# EAGLE library part TM4C123GH6PZ (library Shared Libraries)
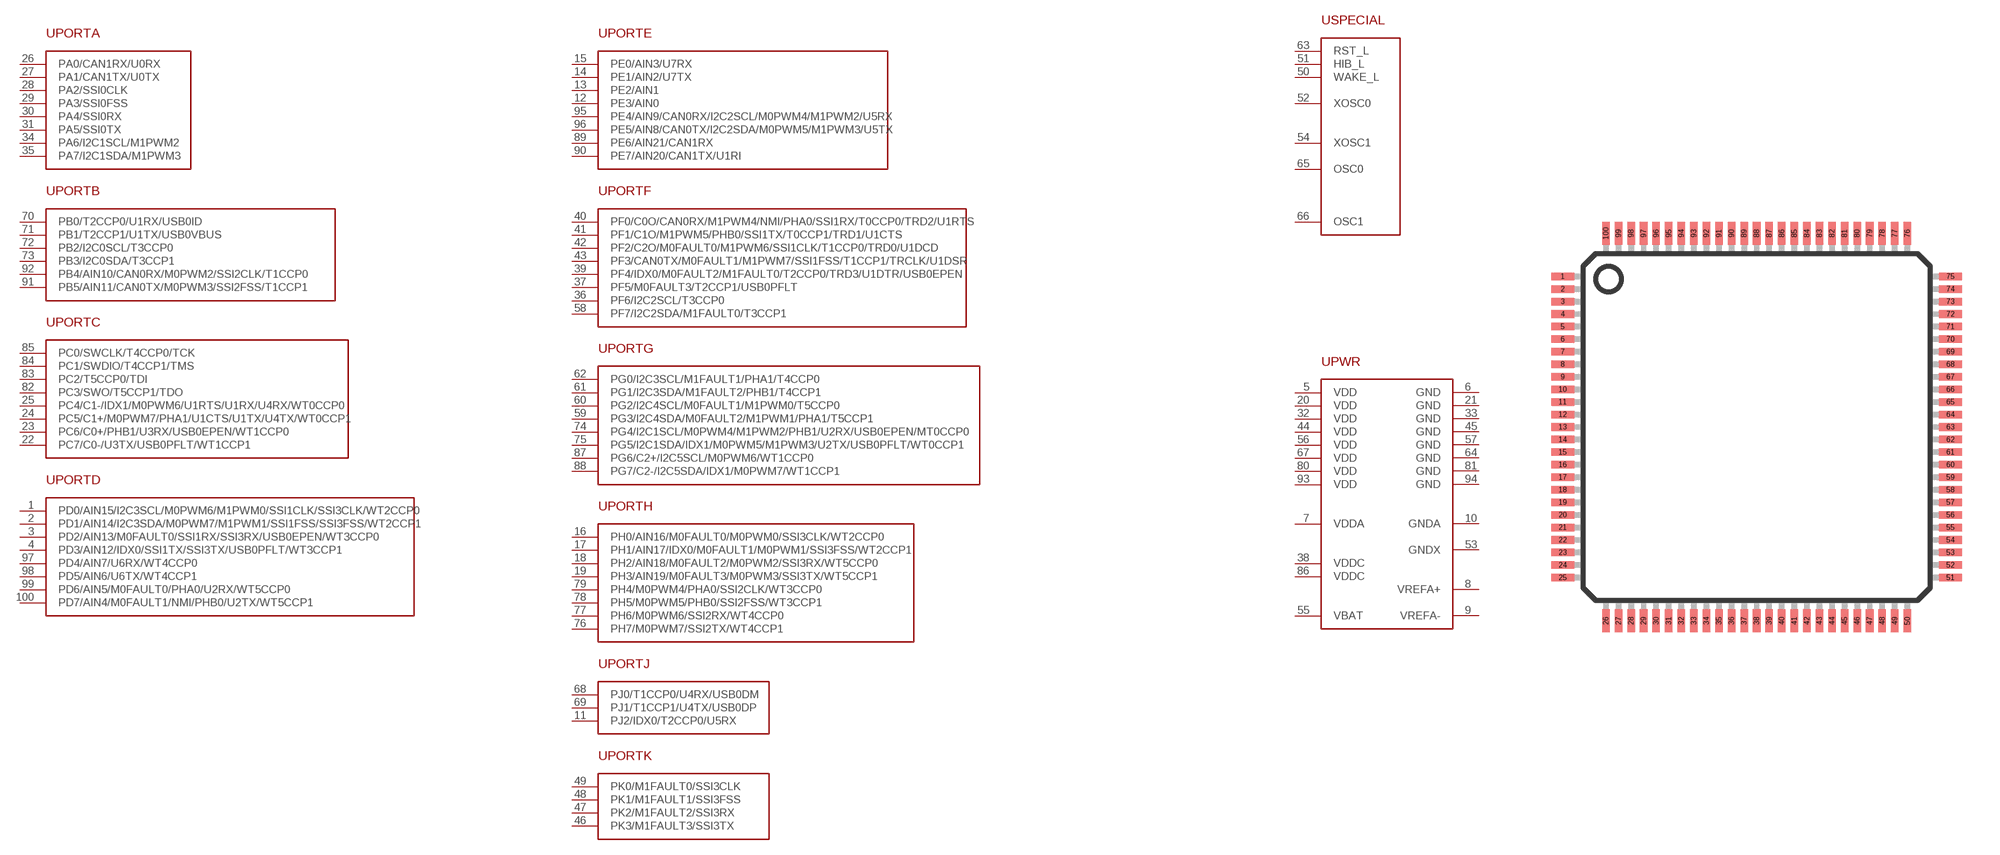
[diagram p9: symbol with the pads of LQFP100; footprint LQFP100]

Designator prefix U; gates PORTA=TM4C123GH6PZ_PA PORTB=TM4C123GH6PZ_PB PORTC=TM4C123GH6PZ_PC PORTD=TM4C123GH6PZ_PD PORTE=TM4C123GH6PZ_PE PORTF=TM4C123GH6PZ_PF PORTG=TM4C123GH6PZ_PG PORTH=TM4C123GH6PZ_PH PORTJ=TM4C123GH6PZ_PJ PORTK=TM4C123GH6PZ_PK SPECIAL=TM4C123GH6PZ_SPEC PWR=TM4C123GH6PZ_PWR

## TM4C123GH6PZ  [LQFP100]
1  PORTD:PD0/AIN15/I2C3SCL/M0PWM6/M1PWM0/SSI1CLK/SSI3CLK/WT2CCP0
2  PORTD:PD1/AIN14/I2C3SDA/M0PWM7/M1PWM1/SSI1FSS/SSI3FSS/WT2CCP1
3  PORTD:PD2/AIN13/M0FAULT0/SSI1RX/SSI3RX/USB0EPEN/WT3CCP0
4  PORTD:PD3/AIN12/IDX0/SSI1TX/SSI3TX/USB0PFLT/WT3CCP1
5  PWR:VDD
6  PWR:GND
7  PWR:VDDA
8  PWR:VREFA+
9  PWR:VREFA-
10  PWR:GNDA
11  PORTJ:PJ2/IDX0/T2CCP0/U5RX
12  PORTE:PE3/AIN0
13  PORTE:PE2/AIN1
14  PORTE:PE1/AIN2/U7TX
15  PORTE:PE0/AIN3/U7RX
16  PORTH:PH0/AIN16/M0FAULT0/M0PWM0/SSI3CLK/WT2CCP0
17  PORTH:PH1/AIN17/IDX0/M0FAULT1/M0PWM1/SSI3FSS/WT2CCP1
18  PORTH:PH2/AIN18/M0FAULT2/M0PWM2/SSI3RX/WT5CCP0
19  PORTH:PH3/AIN19/M0FAULT3/M0PWM3/SSI3TX/WT5CCP1
20  PWR:VDD
21  PWR:GND
22  PORTC:PC7/C0-/U3TX/USB0PFLT/WT1CCP1
23  PORTC:PC6/C0+/PHB1/U3RX/USB0EPEN/WT1CCP0
24  PORTC:PC5/C1+/M0PWM7/PHA1/U1CTS/U1TX/U4TX/WT0CCP1
25  PORTC:PC4/C1-/IDX1/M0PWM6/U1RTS/U1RX/U4RX/WT0CCP0
26  PORTA:PA0/CAN1RX/U0RX
27  PORTA:PA1/CAN1TX/U0TX
28  PORTA:PA2/SSI0CLK
29  PORTA:PA3/SSI0FSS
30  PORTA:PA4/SSI0RX
31  PORTA:PA5/SSI0TX
32  PWR:VDD
33  PWR:GND
34  PORTA:PA6/I2C1SCL/M1PWM2
35  PORTA:PA7/I2C1SDA/M1PWM3
36  PORTF:PF6/I2C2SCL/T3CCP0
37  PORTF:PF5/M0FAULT3/T2CCP1/USB0PFLT
38  PWR:VDDC
39  PORTF:PF4/IDX0/M0FAULT2/M1FAULT0/T2CCP0/TRD3/U1DTR/USB0EPEN
40  PORTF:PF0/C0O/CAN0RX/M1PWM4/NMI/PHA0/SSI1RX/T0CCP0/TRD2/U1RTS
41  PORTF:PF1/C1O/M1PWM5/PHB0/SSI1TX/T0CCP1/TRD1/U1CTS
42  PORTF:PF2/C2O/M0FAULT0/M1PWM6/SSI1CLK/T1CCP0/TRD0/U1DCD
43  PORTF:PF3/CAN0TX/M0FAULT1/M1PWM7/SSI1FSS/T1CCP1/TRCLK/U1DSR
44  PWR:VDD
45  PWR:GND
46  PORTK:PK3/M1FAULT3/SSI3TX
47  PORTK:PK2/M1FAULT2/SSI3RX
48  PORTK:PK1/M1FAULT1/SSI3FSS
49  PORTK:PK0/M1FAULT0/SSI3CLK
50  SPECIAL:WAKE_L
51  SPECIAL:HIB_L
52  SPECIAL:XOSC0
53  PWR:GNDX
54  SPECIAL:XOSC1
55  PWR:VBAT
56  PWR:VDD
57  PWR:GND
58  PORTF:PF7/I2C2SDA/M1FAULT0/T3CCP1
59  PORTG:PG3/I2C4SDA/M0FAULT2/M1PWM1/PHA1/T5CCP1
60  PORTG:PG2/I2C4SCL/M0FAULT1/M1PWM0/T5CCP0
61  PORTG:PG1/I2C3SDA/M1FAULT2/PHB1/T4CCP1
62  PORTG:PG0/I2C3SCL/M1FAULT1/PHA1/T4CCP0
63  SPECIAL:RST_L
64  PWR:GND
65  SPECIAL:OSC0
66  SPECIAL:OSC1
67  PWR:VDD
68  PORTJ:PJ0/T1CCP0/U4RX/USB0DM
69  PORTJ:PJ1/T1CCP1/U4TX/USB0DP
70  PORTB:PB0/T2CCP0/U1RX/USB0ID
71  PORTB:PB1/T2CCP1/U1TX/USB0VBUS
72  PORTB:PB2/I2C0SCL/T3CCP0
73  PORTB:PB3/I2C0SDA/T3CCP1
74  PORTG:PG4/I2C1SCL/M0PWM4/M1PWM2/PHB1/U2RX/USB0EPEN/MT0CCP0
75  PORTG:PG5/I2C1SDA/IDX1/M0PWM5/M1PWM3/U2TX/USB0PFLT/WT0CCP1
76  PORTH:PH7/M0PWM7/SSI2TX/WT4CCP1
77  PORTH:PH6/M0PWM6/SSI2RX/WT4CCP0
78  PORTH:PH5/M0PWM5/PHB0/SSI2FSS/WT3CCP1
79  PORTH:PH4/M0PWM4/PHA0/SSI2CLK/WT3CCP0
80  PWR:VDD
81  PWR:GND
82  PORTC:PC3/SWO/T5CCP1/TDO
83  PORTC:PC2/T5CCP0/TDI
84  PORTC:PC1/SWDIO/T4CCP1/TMS
85  PORTC:PC0/SWCLK/T4CCP0/TCK
86  PWR:VDDC
87  PORTG:PG6/C2+/I2C5SCL/M0PWM6/WT1CCP0
88  PORTG:PG7/C2-/I2C5SDA/IDX1/M0PWM7/WT1CCP1
89  PORTE:PE6/AIN21/CAN1RX
90  PORTE:PE7/AIN20/CAN1TX/U1RI
91  PORTB:PB5/AIN11/CAN0TX/M0PWM3/SSI2FSS/T1CCP1
92  PORTB:PB4/AIN10/CAN0RX/M0PWM2/SSI2CLK/T1CCP0
93  PWR:VDD
94  PWR:GND
95  PORTE:PE4/AIN9/CAN0RX/I2C2SCL/M0PWM4/M1PWM2/U5RX
96  PORTE:PE5/AIN8/CAN0TX/I2C2SDA/M0PWM5/M1PWM3/U5TX
97  PORTD:PD4/AIN7/U6RX/WT4CCP0
98  PORTD:PD5/AIN6/U6TX/WT4CCP1
99  PORTD:PD6/AIN5/M0FAULT0/PHA0/U2RX/WT5CCP0
100  PORTD:PD7/AIN4/M0FAULT1/NMI/PHB0/U2TX/WT5CCP1

## Footprint LQFP100 (pad centres in mm)
Low Profile Quad Flat Pack
smd 0.9 x 0.3: 1 -7.72,6; 2 -7.72,5.5; 3 -7.72,5; 4 -7.72,4.5; 5 -7.72,4; 6 -7.72,3.5; 7 -7.72,3; 8 -7.72,2.5; 9 -7.72,2; 10 -7.72,1.5; 11 -7.72,1; 12 -7.72,0.5; 13 -7.72,0; 14 -7.72,-0.5; 15 -7.72,-1; 16 -7.72,-1.5; 17 -7.72,-2; 18 -7.72,-2.5; 19 -7.72,-3; 20 -7.72,-3.5; 21 -7.72,-4; 22 -7.72,-4.5; 23 -7.72,-5; 24 -7.72,-5.5; 25 -7.72,-6; 51 7.72,-6; 52 7.72,-5.5; 53 7.72,-5; 54 7.72,-4.5; 55 7.72,-4; 56 7.72,-3.5; 57 7.72,-3; 58 7.72,-2.5; 59 7.72,-2; 60 7.72,-1.5; 61 7.72,-1; 62 7.72,-0.5; 63 7.72,0; 64 7.72,0.5; 65 7.72,1; 66 7.72,1.5; 67 7.72,2; 68 7.72,2.5; 69 7.72,3; 70 7.72,3.5; 71 7.72,4; 72 7.72,4.5; 73 7.72,5; 74 7.72,5.5; 75 7.72,6
smd 0.3 x 0.9: 26 -6,-7.72; 27 -5.5,-7.72; 28 -5,-7.72; 29 -4.5,-7.72; 30 -4,-7.72; 31 -3.5,-7.72; 32 -3,-7.72; 33 -2.5,-7.72; 34 -2,-7.72; 35 -1.5,-7.72; 36 -1,-7.72; 37 -0.5,-7.72; 38 0,-7.72; 39 0.5,-7.72; 40 1,-7.72; 41 1.5,-7.72; 42 2,-7.72; 43 2.5,-7.72; 44 3,-7.72; 45 3.5,-7.72; 46 4,-7.72; 47 4.5,-7.72; 48 5,-7.72; 49 5.5,-7.72; 50 6,-7.72; 76 6,7.72; 77 5.5,7.72; 78 5,7.72; 79 4.5,7.72; 80 4,7.72; 81 3.5,7.72; 82 3,7.72; 83 2.5,7.72; 84 2,7.72; 85 1.5,7.72; 86 1,7.72; 87 0.5,7.72; 88 0,7.72; 89 -0.5,7.72; 90 -1,7.72; 91 -1.5,7.72; 92 -2,7.72; 93 -2.5,7.72; 94 -3,7.72; 95 -3.5,7.72; 96 -4,7.72; 97 -4.5,7.72; 98 -5,7.72; 99 -5.5,7.72; 100 -6,7.72